# Altium schematic symbol library XTAL-2.SchLib: 1 symbol
Pins are listed as number, name and electrical type; pins without a type are passive.

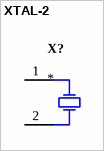
[diagram p0: symbol XTAL-2]

## XTAL-2
designator X?
pins: 1 X1, 2 X2